# Altium schematic symbol library TLC27L2.SchLib: 1 symbol
Pins are listed as number, name and electrical type; pins without a type are passive.

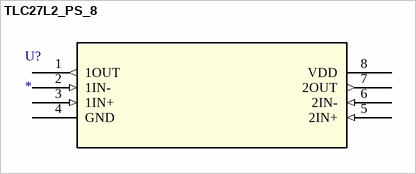
[diagram p0: symbol TLC27L2_PS_8]

## TLC27L2_PS_8
designator U?
Dual Precision Single Supply uPower Operational Amplifier; Manufacturer: Texas Instruments; GENERIC_PART_NUMBER: TLC27L2; INDUSTRY_STD_PKG_TYPE: SO; FAMILY_NAME: LOW POWER; PIN_COUNT: 8; PACKAGE_DESIGNATOR: PS; Datasheet URL: http://www.ti.com/lit/gpn/TLC27L2; RefDes: RefDes; Type: DEV; Value: Value
footprint PS8-M
pins: 1 1OUT (out), 2 1IN- (in), 3 1IN+ (in), 4 GND (power), 5 2IN+ (in), 6 2IN- (in), 7 2OUT (out), 8 VDD (power)